# Altium schematic symbol library GND_SYMBOL.SchLib: 1 symbol
Pins are listed as number, name and electrical type; pins without a type are passive.

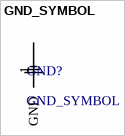
[diagram p0: symbol GND_SYMBOL]

## GND_SYMBOL
designator GND?
Ground symbol
pins: 1 GND (power)